# EAGLE library part PCI_SPI_HEADER (library femtoduino)
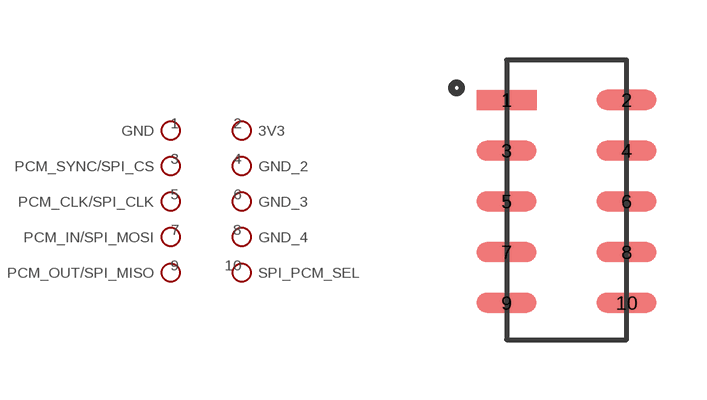
[diagram p6: symbol with the pads of PCI_SPI_HEADER_PACKAGE; footprint PCI_SPI_HEADER_PACKAGE]

Designator prefix -

## PCI_SPI_HEADER  [PCI_SPI_HEADER_PACKAGE]
1  GND
2  3V3
3  PCM_SYNC/SPI_CS
4  GND_2
5  PCM_CLK/SPI_CLK
6  GND_3
7  PCM_IN/SPI_MOSI
8  GND_4
9  PCM_OUT/SPI_MISO
10  SPI_PCM_SEL

## Footprint PCI_SPI_HEADER_PACKAGE (pad centres in mm)
smd 1.5 x 0.5: 1 -1.5,0; 2 1.5,0; 3 -1.5,-1.27; 4 1.5,-1.27; 5 -1.5,-2.54; 6 1.5,-2.54; 7 -1.5,-3.81; 8 1.5,-3.81; 9 -1.5,-5.08; 10 1.5,-5.08